# Altium schematic symbol library USB-B1HSB6.SchLib: 1 symbol
Pins are listed as number, name and electrical type; pins without a type are passive.

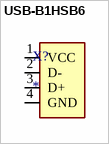
[diagram p0: symbol USB-B1HSB6]

## USB-B1HSB6
designator X?
Conn Usb Type b r/a Black; MP: USB-B1HSB6; MF: {'manufacturer': u'On Shore'}; Availability: Unavailable; Package: None; Value: *; Price: None
footprint OST_USB-B1HSB6
pins: 1 VCC (power), 2 D- (io), 3 D+ (io), 4 GND (power)